# Altium footprint library s2h-eb.PcbLib: 1 footprints
Each footprint in its own frame and in the unit in brackets; x right, y up, seen from the top. Pads: shape width x height; smd on the part's side, far side on the other; paste and mask are expansions set on the pad; w line width, h text height; cw(c..) or ccw(c..) is an arc to the next point about the centre after c.
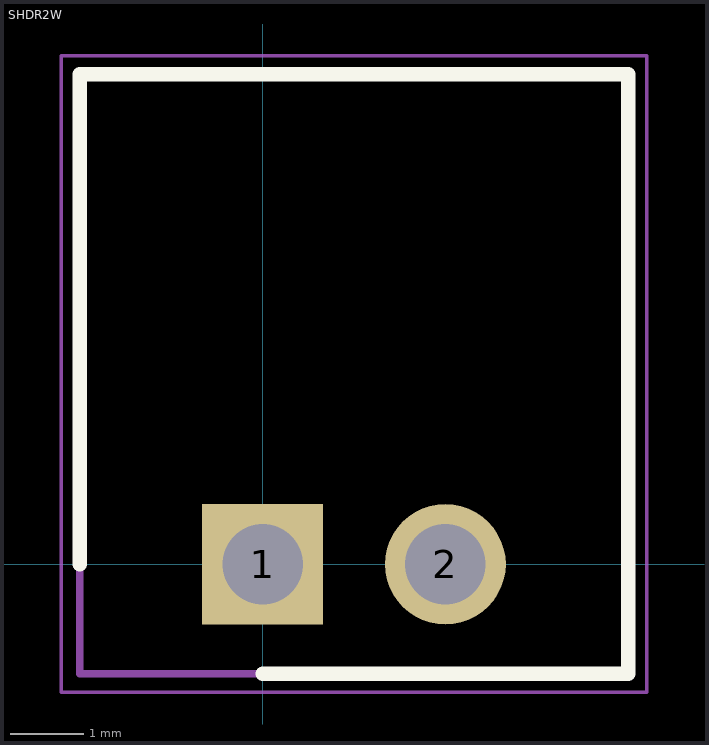
[diagram p0: the footprint, top view; thin cyan lines are the x and y axes]

## SHDR2W [mm] "CONN HEADER R/A 2POS 2.5MM"
pads (2):
  rect 1.65x1.65 hole 1.1: 1(0,0)
  round 1.65 hole 1.1: 2(2.5,0)
Top Overlay:
  lines w0.2: -2.5,0 -2.5,6.7 5,6.7 5,-1.5 0,-1.5
Mechanical 13:
  lines w0.1: -2.5,-1.5 -2.5,6.7 5,6.7 5,-1.5 -2.5,-1.5
Mechanical 15:
  lines w0.05: -2.75,-1.75 -2.75,6.95 5.25,6.95 5.25,-1.75 -2.75,-1.75